# Altium integrated library Linear Technology Power Management Switching Regulator LTC1174-LTC3901.IntLib: 2647 symbols (part 339 of 364)
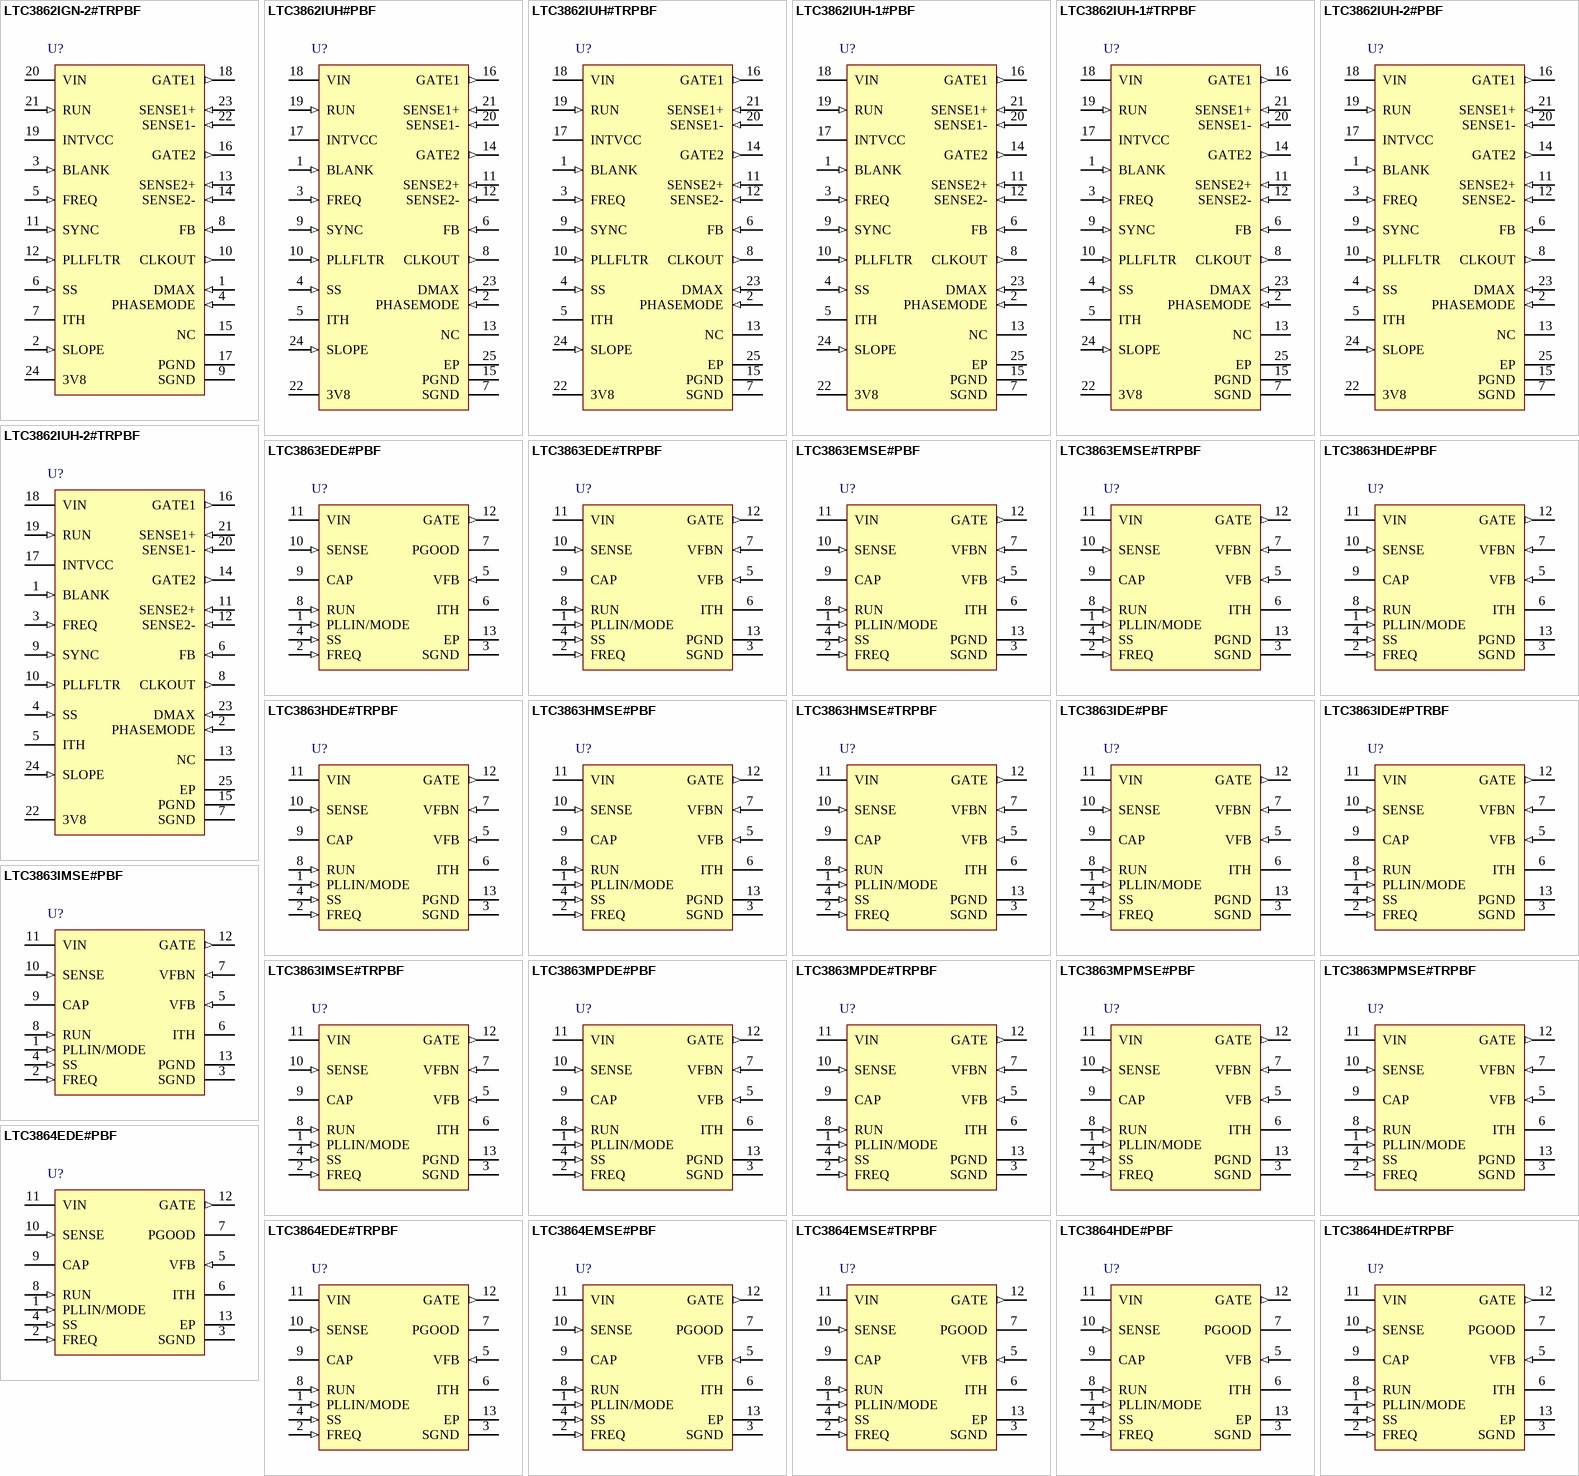
[diagram p392: symbols LTC3862IGN-2#TRPBF to LTC3864HDE#TRPBF]

## LTC3863IDE#PBF
designator U?
Low IQ Inverting DC/DC Controller, 12-pin SON (DE-UE-12), -40 to 125 degC, Pb-Free; Manufacturer: Linear Technology; PartNumber: LTC3863IDE#PBF; Frequency Sync Range: 75kHz - 750kHz; Number of Outputs: 1; PackageVersion: Rev. D, 06/2010; PackageReference: DE-UE-12; PackageDescription: 12-Pin Plastic DFN, Body 4 x 3 mm, Pitch 0.5 mm; Supplier 1: Digi-Key; Supplier Part Number 1: LTC3863IDE#PBF-ND; Supplier 2: Farnell; Supplier Part Number 2: 2322418; Supplier 3: Newark; Supplier Part Number 3: 94W8415; RoHS: TRUE; Mounting Technology: Surface Mount; Code_JEDEC: MO-229; ComponentLink1Description: Manufacturer URL; ComponentLink1URL: http://www.linear.com/; ComponentLink2Description: Datasheet; ComponentLink2URL: http://cds.linear.com/docs/en/datasheet/3863f.pdf; ComponentLink3Description: Package Specification; ComponentLink3URL: http://cds.linear.com/docs/en/packaging/DFN_12_05-08-1695.pdf
footprint LT-DE-UE-12_V (SON, 12-Leads, Body 4x3mm, Pitch 0.5mm, Thermal Pad 3.3x1.7mm)
pins: 1 PLLIN/MODE (in) "External Reference Clock Input and Burst Mode Enable/Disable. When an external clock is applied to this pin, the internal phase-locked loop will synchronize the turn-on edge of the gate drive signal with the rising edge of (See Datasheet)", 2 FREQ (in) "Switching Frequency Setpoint Input. The switching frequency is programmed by an external setpoint resistor RFREQ connected between the FREQ pin and signal ground. An internal 20uA current source creates a voltage across the (See Datasheet)", 3 SGND (power) "Ground Reference for Small-Signal Analog Component (Signal Ground). Signal ground should be used as the common ground for all small-signal analog inputs and compensation components. Connect the signal ground to the power (See Datasheet)", 4 SS (in) "Soft-Start and External Tracking Input. The LTC3863 regulates the feedback voltage to the smaller of 0.8V or the voltage on the SS pin. An internal 10uA pull-up current source is connected to this pin. A capacitor to ground (See Datasheet)", 5 VFB (in) "Output Feedback Sense. A resistor divider from the regulated output point to this pin sets the output voltage. The LTC3863 will nominally regulate VFB to the internal reference value of 0.8V. If VFB is less than 0.4V, the (See Datasheet)", 6 ITH "Current Control Threshold and Controller Compensation Point. This pin is the output of the error amplifier and the switching regulator’s compensation point. The voltage ranges from 0V to 2.9V, with 0.8V corresponding t(See Datasheet)", 7 VFBN (in) "Feedback Input for an Inverting PWM Controller. Connect VFBN to the center of a resistor divider between the output and VFB. The VFBN threshold is 0V. To defeat the inverting amplifier and use the LTC3863 as an LTC3864 (See Datasheet)", 8 RUN (in) "Digital Run Control Input. A RUN voltage above the 1.26V threshold enables normal operation, while a voltage below the threshold shuts down the controller. An internal 0.4uA current source pulls the RUN pin up to about 3.3V. (See Datasheet)", 9 CAP "Gate Driver (-) Supply. A low ESR ceramic bypass capacitor of at least 0.1uF or 10X the effective CMILLER of the P-channel power MOSFET, is required from VIN to this pin to serve as a bypass capacitor for the internal (See Datasheet)", 10 SENSE (in) "Current Sense Input. A sense resistor, RSENSE, from the VIN pin to the SENSE pin sets the maximum current limit. The peak inductor current limit is equal to 95mV/RSENSE. For accuracy, it is important that the VIN pin and the (See Datasheet)", 11 VIN (power) "Chip Power Supply. A minimum bypass capacitor of 0.1uF is required from the VIN pin to power ground. For best performance use a low ESR ceramic capacitor placed near the VIN pin.", 12 GATE (out) "Gate Drive Output for External P-Channel MOSFET. The gate driver bias supply voltage (VIN-VCAP) is regulated to 8V when VIN is greater than 8V. The gate driver is disabled when (VIN-VCAP) is less than 3.5V (typical), 3.8V (See Datasheet)", 13 PGND (power) "Ground Reference for PowerComponents (Power Ground). The PGND exposed pad must be soldered to the circuit board for electrical contact and for rated thermal performance of the package. Connect signal ground to power ground (See Datasheet)"

## LTC3863IDE#PTRBF
designator U?
Low IQ Inverting DC/DC Controller, 12-pin SON (DE-UE-12), -40 to 125 degC, Pb-Free, Tape and Reel; Manufacturer: Linear Technology; PartNumber: LTC3863IDE#PTRBF; Frequency Sync Range: 75kHz - 750kHz; Number of Outputs: 1; PackageVersion: Rev. D, 06/2010; PackageReference: DE-UE-12; PackageDescription: 12-Pin Plastic DFN, Body 4 x 3 mm, Pitch 0.5 mm; Packing: Tape and Reel; RoHS: TRUE; Mounting Technology: Surface Mount; Code_JEDEC: MO-229; ComponentLink1Description: Manufacturer URL; ComponentLink1URL: http://www.linear.com/; ComponentLink2Description: Datasheet; ComponentLink2URL: http://cds.linear.com/docs/en/datasheet/3863f.pdf; ComponentLink3Description: Package Specification; ComponentLink3URL: http://cds.linear.com/docs/en/packaging/DFN_12_05-08-1695.pdf
footprint LT-DE-UE-12_V (SON, 12-Leads, Body 4x3mm, Pitch 0.5mm, Thermal Pad 3.3x1.7mm)
pins: 1 PLLIN/MODE (in) "External Reference Clock Input and Burst Mode Enable/Disable. When an external clock is applied to this pin, the internal phase-locked loop will synchronize the turn-on edge of the gate drive signal with the rising edge of (See Datasheet)", 2 FREQ (in) "Switching Frequency Setpoint Input. The switching frequency is programmed by an external setpoint resistor RFREQ connected between the FREQ pin and signal ground. An internal 20uA current source creates a voltage across the (See Datasheet)", 3 SGND (power) "Ground Reference for Small-Signal Analog Component (Signal Ground). Signal ground should be used as the common ground for all small-signal analog inputs and compensation components. Connect the signal ground to the power (See Datasheet)", 4 SS (in) "Soft-Start and External Tracking Input. The LTC3863 regulates the feedback voltage to the smaller of 0.8V or the voltage on the SS pin. An internal 10uA pull-up current source is connected to this pin. A capacitor to ground (See Datasheet)", 5 VFB (in) "Output Feedback Sense. A resistor divider from the regulated output point to this pin sets the output voltage. The LTC3863 will nominally regulate VFB to the internal reference value of 0.8V. If VFB is less than 0.4V, the (See Datasheet)", 6 ITH "Current Control Threshold and Controller Compensation Point. This pin is the output of the error amplifier and the switching regulator’s compensation point. The voltage ranges from 0V to 2.9V, with 0.8V corresponding t(See Datasheet)", 7 VFBN (in) "Feedback Input for an Inverting PWM Controller. Connect VFBN to the center of a resistor divider between the output and VFB. The VFBN threshold is 0V. To defeat the inverting amplifier and use the LTC3863 as an LTC3864 (See Datasheet)", 8 RUN (in) "Digital Run Control Input. A RUN voltage above the 1.26V threshold enables normal operation, while a voltage below the threshold shuts down the controller. An internal 0.4uA current source pulls the RUN pin up to about 3.3V. (See Datasheet)", 9 CAP "Gate Driver (-) Supply. A low ESR ceramic bypass capacitor of at least 0.1uF or 10X the effective CMILLER of the P-channel power MOSFET, is required from VIN to this pin to serve as a bypass capacitor for the internal (See Datasheet)", 10 SENSE (in) "Current Sense Input. A sense resistor, RSENSE, from the VIN pin to the SENSE pin sets the maximum current limit. The peak inductor current limit is equal to 95mV/RSENSE. For accuracy, it is important that the VIN pin and the (See Datasheet)", 11 VIN (power) "Chip Power Supply. A minimum bypass capacitor of 0.1uF is required from the VIN pin to power ground. For best performance use a low ESR ceramic capacitor placed near the VIN pin.", 12 GATE (out) "Gate Drive Output for External P-Channel MOSFET. The gate driver bias supply voltage (VIN-VCAP) is regulated to 8V when VIN is greater than 8V. The gate driver is disabled when (VIN-VCAP) is less than 3.5V (typical), 3.8V (See Datasheet)", 13 PGND (power) "Ground Reference for PowerComponents (Power Ground). The PGND exposed pad must be soldered to the circuit board for electrical contact and for rated thermal performance of the package. Connect signal ground to power ground (See Datasheet)"